# Altium schematic symbol library SCH.SchLib: 15 symbols
Pins are listed as number, name and electrical type; pins without a type are passive.

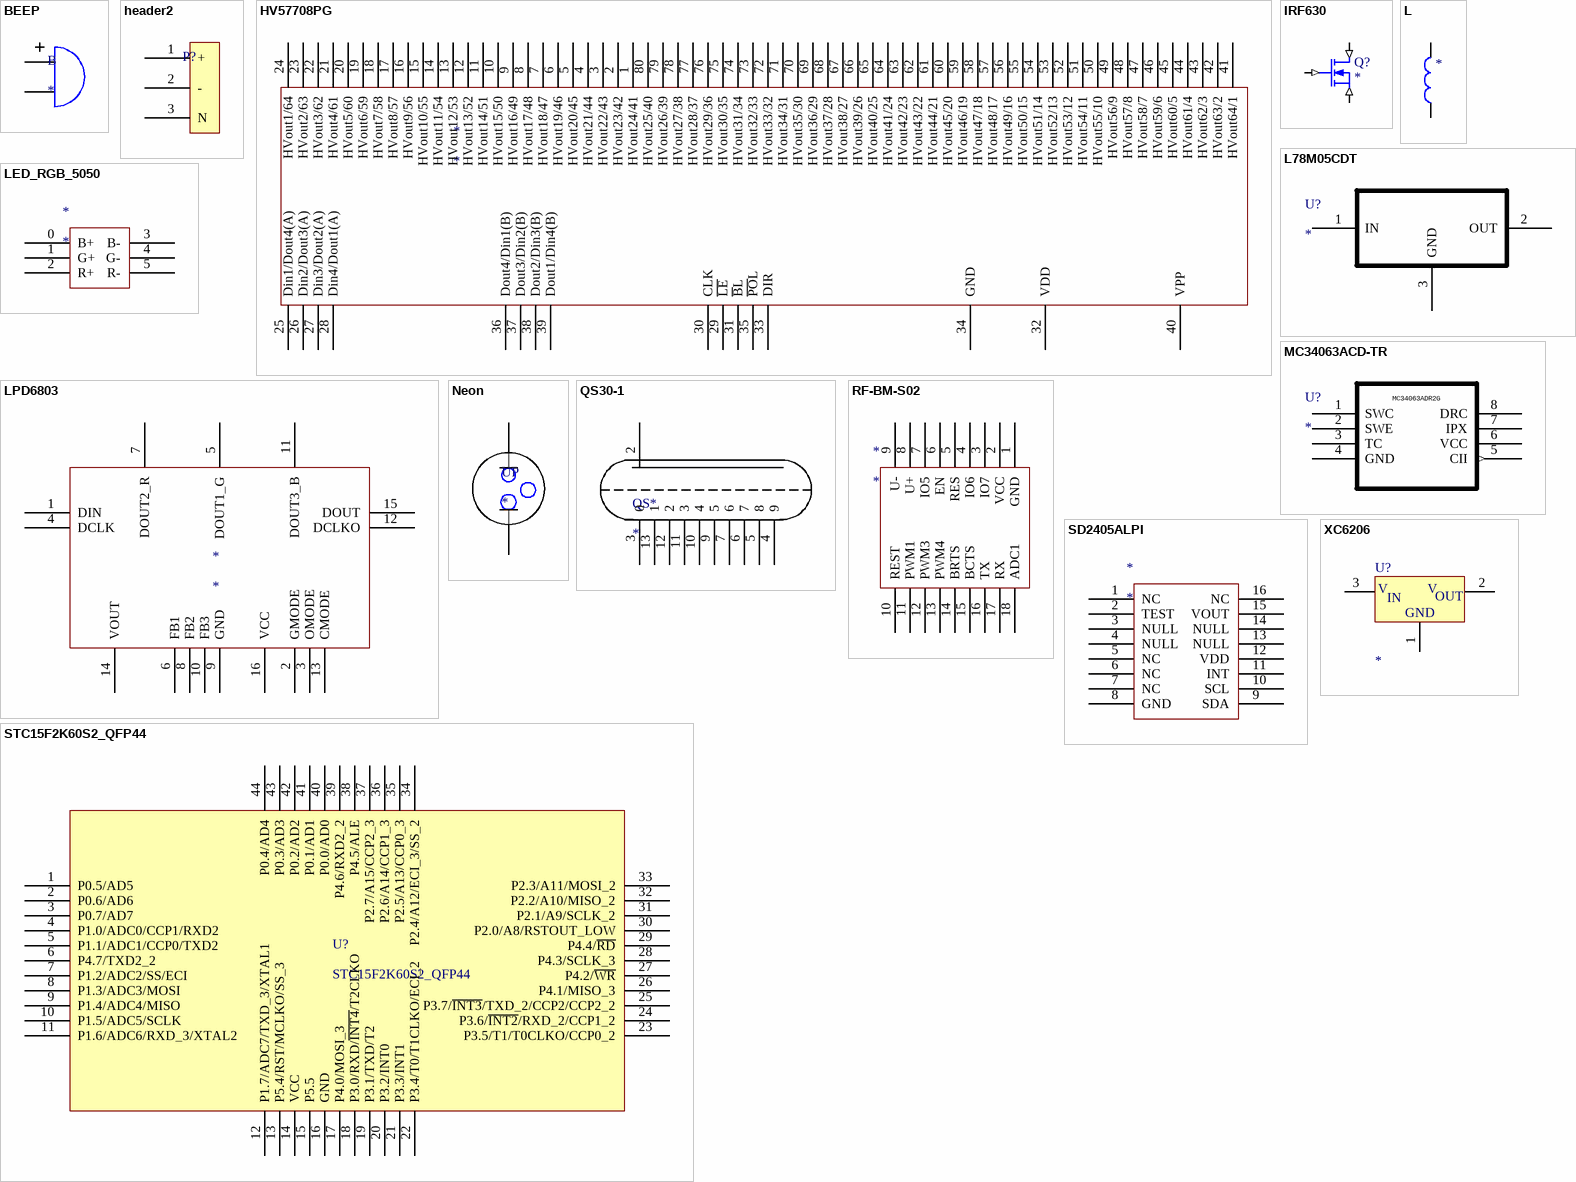
[diagram p0: symbols BEEP to XC6206]

## BEEP
designator B
footprint BEEP
pins: 1 A, 2 B

## header2
designator P?, comment PWR  (value not drawn)
footprint DC-044
pins: 1 +, 2 -, 3 N

## HV57708PG
designator *
pins: 1 HVout24/41, 2 HVout23/42, 3 HVout22/43, 4 HVout21/44, 5 HVout20/45, 6 HVout19/46, 7 HVout18/47, 8 HVout17/48, 9 HVout16/49, 10 HVout15/50, 11 HVout14/51, 12 HVout13/52, 13 HVout12/53, 14 HVout11/54, 15 HVout10/55, 16 HVout9/56, 17 HVout8/57, 18 HVout7/58, 19 HVout6/59, 20 HVout5/60, 21 HVout4/61, 22 HVout3/62, 23 HVout2/63, 24 HVout1/64, 25 Din1/Dout4(A), 26 Din2/Dout3(A), 27 Din3/Dout2(A), 28 Din4/Dout1(A), 29 ~{LE}, 30 CLK, 31 ~{B}L, 32 VDD, 33 DIR, 34 GND, 35 ~{PO}L, 36 Dout4/Din1(B), 37 Dout3/Din2(B), 38 Dout2/Din3(B), 39 Dout1/Din4(B), 40 VPP, 41 HVout64/1, 42 HVout63/2, 43 HVout62/3, 44 HVout61/4, 45 HVout60/5, 46 HVout59/6, 47 HVout58/7, 48 HVout57/8, 49 HVout56/9, 50 HVout55/10, 51 HVout54/11, 52 HVout53/12, 53 HVout52/13, 54 HVout51/14, 55 HVout50/15, 56 HVout49/16, 57 HVout48/17, 58 HVout47/18, 59 HVout46/19, 60 HVout45/20, 61 HVout44/21, 62 HVout43/22, 63 HVout42/23, 64 HVout41/24, 65 HVout40/25, 66 HVout39/26, 67 HVout38/27, 68 HVout37/28, 69 HVout36/29, 70 HVout35/30, 71 HVout34/31, 72 HVout33/32, 73 HVout32/33, 74 HVout31/34, 75 HVout30/35, 76 HVout29/36, 77 HVout28/37, 78 HVout27/38, 79 HVout26/39, 80 HVout25/40

## IRF630
designator Q?
N-Channel MOSFET
simulation model IRF630 (SUBCKT)
pins: 1 D (in), 2 G (in), 3 S (in)
1 alternate drawing of the same symbol

## L
designator ?
footprint L100
pins: 1, 2

## L78M05CDT
designator U?
Imported
footprint DPAK-M
pins: 1 IN (power), 2 OUT (power), 3 GND (power)

## LED_RGB_5050
designator *
footprint LED_RGB_5050
pins: 0 B+, 1 G+, 2 R+, 3 B-, 4 G-, 5 R-

## LPD6803
designator *
pins: 1 DIN, 2 GMODE, 3 OMODE, 4 DCLK, 5 DOUT1_G, 6 FB1, 7 DOUT2_R, 8 FB2, 9 GND, 10 FB3, 11 DOUT3_B, 12 DCLKO, 13 CMODE, 14 VOUT, 15 DOUT, 16 VCC

## MC34063ACD-TR
designator U?  Manufacturer_Part_Number: MC34063ADR2G
Imported
footprint SO-8-M
pins: 1 SWC, 2 SWE, 3 TC, 4 GND (power), 5 CII (out), 6 VCC (power), 7 IPX, 8 DRC

## Neon
designator UP
pins: 1, 2

## QS30-1
designator QS*
footprint QS30-1
pins: 2 10, 3 0, 4 9, 5 8, 6 7, 7 6, 9 5, 10 4, 11 3, 12 2, 13 1

## RF-BM-S02
designator *
pins: 1 GND, 2 VCC, 3 IO7, 4 IO6, 5 RES, 6 EN, 7 IO5, 8 U+, 9 U-, 10 REST, 11 PWM1, 12 PWM3, 13 PWM4, 14 BRTS, 15 BCTS, 16 TX, 17 RX, 18 ADC1

## SD2405ALPI
designator *
pins: 1 NC, 2 TEST, 3 NULL, 4 NULL, 5 NC, 6 NC, 7 NC, 8 GND, 9 SDA, 10 SCL, 11 INT, 12 VDD, 13 NULL, 14 NULL, 15 VOUT, 16 NC

## STC15F2K60S2_QFP44
designator U?
footprint PQFP44
footprint LQFP44
footprint LQFP44
pins: 1 P0.5/AD5, 2 P0.6/AD6, 3 P0.7/AD7, 4 P1.0/ADC0/CCP1/RXD2, 5 P1.1/ADC1/CCP0/TXD2, 6 P4.7/TXD2_2, 7 P1.2/ADC2/SS/ECI, 8 P1.3/ADC3/MOSI, 9 P1.4/ADC4/MISO, 10 P1.5/ADC5/SCLK, 11 P1.6/ADC6/RXD_3/XTAL2, 12 P1.7/ADC7/TXD_3/XTAL1, 13 P5.4/RST/MCLKO/SS_3, 14 VCC, 15 P5.5, 16 GND, 17 P4.0/MOSI_3, 18 P3.0/RXD/~{INT4}/T2CLKO, 19 P3.1/TXD/T2, 20 P3.2/INT0, 21 P3.3/INT1, 22 P3.4/T0/T1CLKO/ECI_2, 23 P3.5/T1/T0CLKO/CCP0_2, 24 P3.6/~{INT2}/RXD_2/CCP1_2, 25 P3.7/~{INT3}/TXD_2/CCP2/CCP2_2, 26 P4.1/MISO_3, 27 P4.2/~{WR}, 28 P4.3/SCLK_3, 29 P4.4/~{RD}, 30 P2.0/A8/RSTOUT_LOW, 31 P2.1/A9/SCLK_2, 32 P2.2/A10/MISO_2, 33 P2.3/A11/MOSI_2, 34 P2.4/A12/ECI_3/SS_2, 35 P2.5/A13/CCP0_3, 36 P2.6/A14/CCP1_3, 37 P2.7/A15/CCP2_3, 38 P4.5/ALE, 39 P4.6/RXD2_2, 40 P0.0/AD0, 41 P0.1/AD1, 42 P0.2/AD2, 43 P0.3/AD3, 44 P0.4/AD4

## XC6206
designator U?
3-Terminal Positive Voltage Regulator
footprint SOT-23
pins: 1 GND, 2 VOUT, 3 VIN
text: V; IN; OUT